# EAGLE library part ?08 (library metz)
spring clamp terminal block, solderable, double solder pins
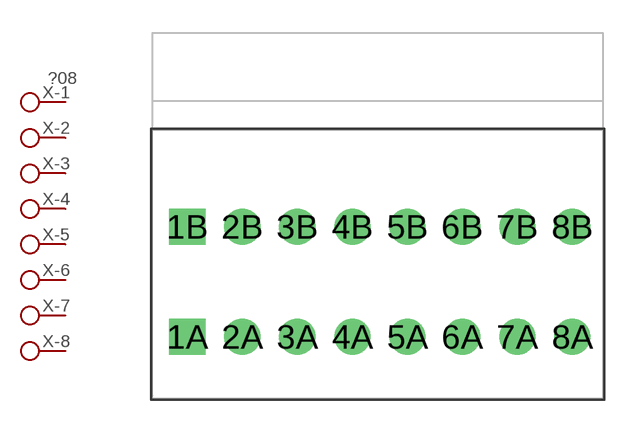
[diagram p0: symbol with the pads of METZ_ST04108DDNN; footprint METZ_ST04108DDNN]

Designator prefix X; gates -1=TERMINAL -2=TERMINAL -3=TERMINAL G$1=VALUE -4=TERMINAL -5=TERMINAL -6=TERMINAL -7=TERMINAL -8=TERMINAL

## AST04108 (HEIGHT: 21.5; PARTNUMBER: ST04108DDNN)  [METZ_ST04108DDNN]
1A  -1:1
1B  -1:1
2A  -2:1
2B  -2:1
3A  -3:1
3B  -3:1
4A  -4:1
4B  -4:1
5A  -5:1
5B  -5:1
6A  -6:1
6B  -6:1
7A  -7:1
7B  -7:1
8A  -8:1
8B  -8:1

## Footprint METZ_ST04108DDNN (pad centres in mm)
ST041xxDDNN (AST041) spring clamp terminal block, solderable, double solder pins,centerline 2.50 mm, direction of connection 45°,color gray,eccentric lever,
drill 1.1 pad 1.65 square: 1A -8.75,-2.5; 1B -8.75,2.5
drill 1.1 pad 1.65: 2A -6.25,-2.5; 2B -6.25,2.5; 3A -3.75,-2.5; 3B -3.75,2.5; 4A -1.25,-2.5; 4B -1.25,2.5; 5A 1.25,-2.5; 5B 1.25,2.5; 6A 3.75,-2.5; 6B 3.75,2.5; 7A 6.25,-2.5; 7B 6.25,2.5; 8A 8.75,-2.5; 8B 8.75,2.5